# Altium footprint library AMPHENOL_LD09S33E4GV00LF.PcbLib: 1 footprints
Each footprint in its own frame and in the unit in brackets; x right, y up, seen from the top. Pads: shape width x height; smd on the part's side, far side on the other; paste and mask are expansions set on the pad; w line width, h text height; cw(c..) or ccw(c..) is an arc to the next point about the centre after c.
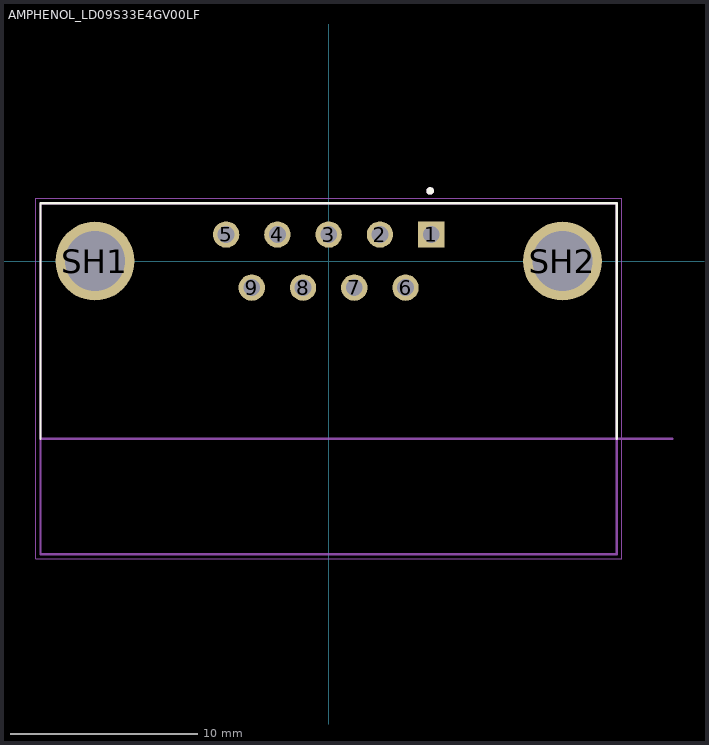
[diagram p0: the footprint, top view; thin cyan lines are the x and y axes]

## AMPHENOL_LD09S33E4GV00LF [mm]
height 12.96
pads (11):
  rect 1.408x1.408 / inner round 1.408 / far side rect 1.408x1.408 hole 0.9: 1(5.48,1.42)
  round 1.408 hole 0.9: 2(2.74,1.42) 3(0,1.42) 4(-2.74,1.42) 5(-5.48,1.42) 6(4.11,-1.42) 7(1.37,-1.42) 8(-1.37,-1.42) 9(-4.11,-1.42)
  round 4.216 hole 3.2: SH1(-12.495,0) SH2(12.495,0)
Top Overlay:
  circle w0.2: c5.425,3.75 r0.1
  lines w0.127: -15.405,-9.5 -15.405,3.1 15.405,3.1 15.405,-9.5
Mechanical 13:
  circle w0.2: c5.425,3.75 r0.1
  lines w0.127: 18.363,-9.5 -15.405,-9.5 ; -15.405,-9.5 -15.405,-15.67 15.405,-15.67 15.405,3.1 -15.405,3.1 -15.405,-9.5
  text "PCB Edge" at 16.155,-9.207 h0.81
Mechanical 15:
  lines w0.05: -15.655,-15.92 -15.655,3.35 15.655,3.35 15.655,-15.92 -15.655,-15.92
3D body "step_temp.STEP": height 12.2, standoff -6.55, extent -15.45,-3.2 15.45,12.55